# Altium schematic symbol library CAP,Film,220nF,63VDC,Radial.Schlib: 1 symbol
Pins are listed as number, name and electrical type; pins without a type are passive.

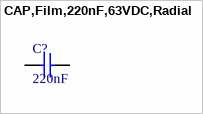
[diagram p0: symbol CAP,Film,220nF,63VDC,Radial]

## CAP,Film,220nF,63VDC,Radial
designator C?, comment 220nF
CAP FILM 0.22UF 5% 63VDC RADIAL
pins: 1, 2